# Altium schematic symbol library IRF8010.SchLib: 1 symbol
Pins are listed as number, name and electrical type; pins without a type are passive.

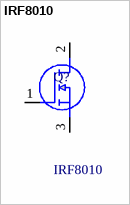
[diagram p0: symbol IRF8010]

## IRF8010
designator Q?
N-Channel HEXFET Power MOSFETs; Manufacturer_Name: Infineon; Geometry.Height: 4.69mm; Manufacturer_Part_Number: IRF8010; Mouser Part Number: *; Mouser Price/Stock: *; Arrow Part Number: *; Arrow Price/Stock: *; Datasheet Link: https://4donline.ihs.com/images/VipMasterIC/IC/IRSD/IRSDS09109/IRSDS09109-1.pdf?hkey=EF798316E3902B6ED9A73243A3159BB0
footprint TO254P469X1042X1967-3P
pins: 1 G, 2 D, 3 S